# Altium footprint library ASDLJE49152MHZLRT.PcbLib: 1 footprints
Each footprint in its own frame and in the unit in brackets; x right, y up, seen from the top. Pads: shape width x height; smd on the part's side, far side on the other; paste and mask are expansions set on the pad; w line width, h text height; cw(c..) or ccw(c..) is an arc to the next point about the centre after c.
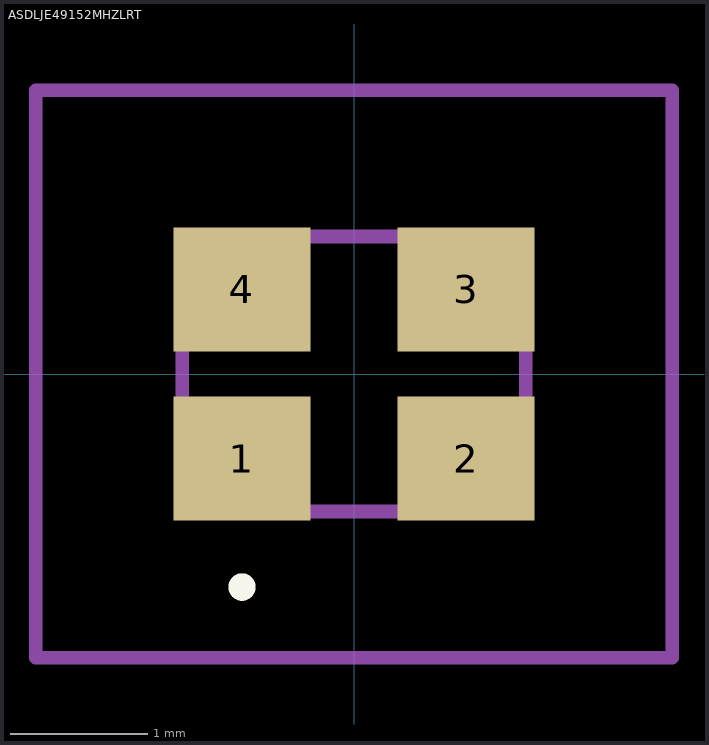
[diagram p0: the footprint, top view; thin cyan lines are the x and y axes]

## ASDLJE49152MHZLRT [mm]
pads (4):
  rect 1x0.9 smd: 1(-0.815,-0.615) 2(0.815,-0.615) 3(0.815,0.615) 4(-0.815,0.615)
Top Overlay:
  lines w0.1: -0.815,-1.6 cw(c-0.815,-1.55) -0.815,-1.5 ; -0.815,-1.6 -0.815,-1.6 ; -0.815,-1.6 ccw(c-0.815,-1.55) -0.815,-1.5 ; -0.815,-1.5 -0.815,-1.5
Mechanical 15:
  lines w0.1: -1.25,-1 1.25,-1 1.25,1 -1.25,1 -1.25,-1
Mechanical 20:
  lines w0.1: -2.315,-2.065 2.315,-2.065 2.315,2.065 -2.315,2.065 -2.315,-2.065